# Altium footprint library PCB - CONNECTOR -TE - TE 282837-5.PcbLib: 1 footprints
Each footprint in its own frame and in the unit in brackets; x right, y up, seen from the top. Pads: shape width x height; smd on the part's side, far side on the other; paste and mask are expansions set on the pad; w line width, h text height; cw(c..) or ccw(c..) is an arc to the next point about the centre after c.
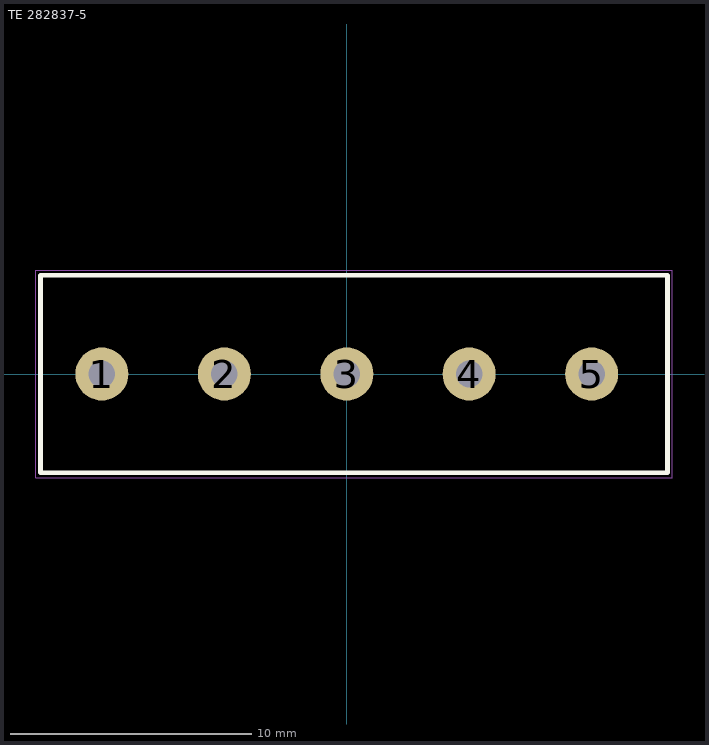
[diagram p0: the footprint, top view; thin cyan lines are the x and y axes]

## TE 282837-5 [mm] "Wire to Board Terminal Block Horizontal with Board, 5 Postions, Body 26x8.2mm, Pitch 5.08mm"
height 10.3
pads (5):
  round 2.2 hole 1.1: 1(-10.16,0) 2(-5.08,0) 3(0,0) 4(5.08,0) 5(10.16,0)
Top Overlay:
  lines w0.2: -12.7,-4.1 13.3,-4.1 13.3,4.1 -12.7,4.1 -12.7,-4.1
Mechanical 13:
  lines w0.1: -12.7,-4.1 13.3,-4.1 13.3,4.1 -12.7,4.1 -12.7,-4.1
Mechanical 15 (Mech15):
  lines w0.05: -12.9,-4.3 -12.9,4.3 13.5,4.3 13.5,-4.3 -12.9,-4.3
  lines w0.1: -0.508,0 0,0 ; 0,-0.508 0,0 ; 0,0.508 0,0 ; 0.508,0 0,0
3D body "TE - 282837-5.stp": height 10.3, standoff -3.8, extent -12.7,-4.1 13.3,4.1